# Altium schematic symbol library Modules.SchLib: 5 symbols
Pins are listed as number, name and electrical type; pins without a type are passive.

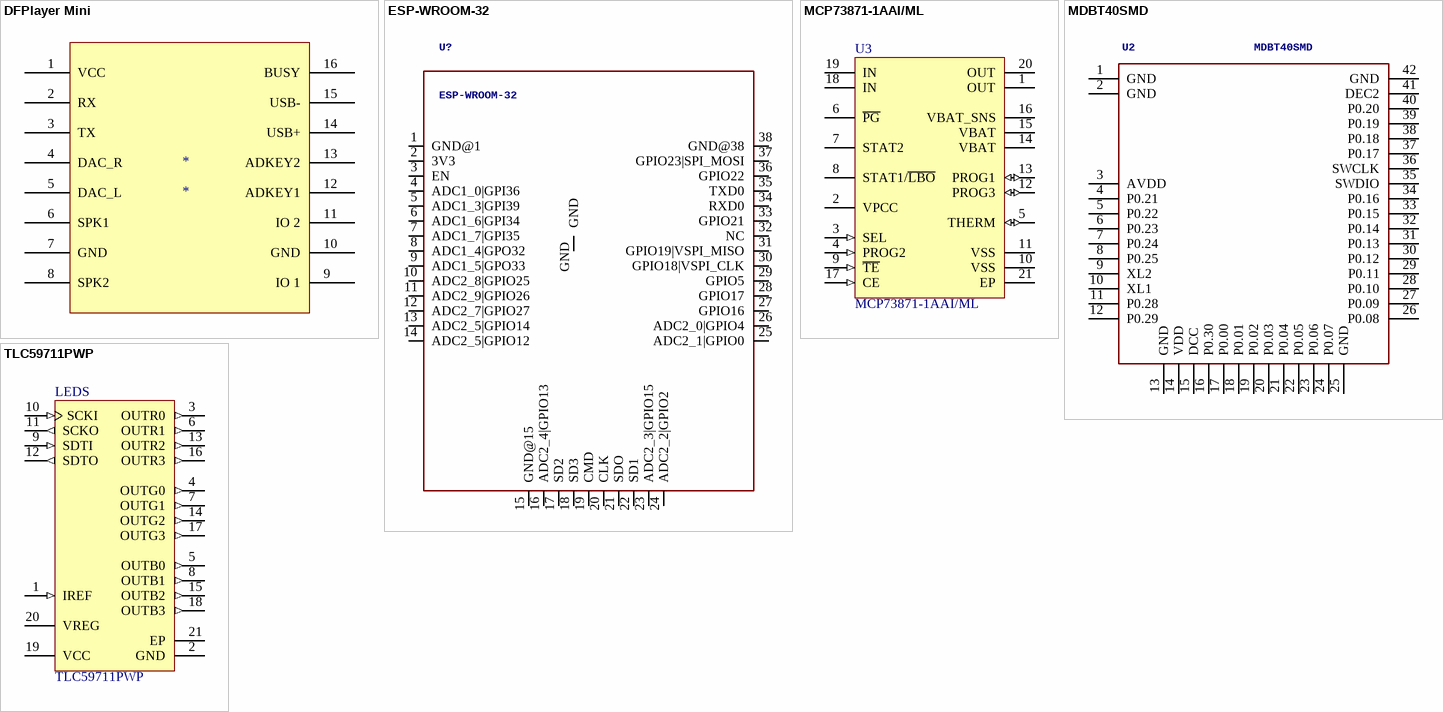
[diagram p0: symbols DFPlayer Mini to TLC59711PWP]

## DFPlayer Mini
designator *
footprint DFPlayer Mini
pins: 1 VCC, 2 RX, 3 TX, 4 DAC_R, 5 DAC_L, 6 SPK1, 7 GND, 8 SPK2, 9 IO 1, 10 GND, 11 IO 2, 12 ADKEY1, 13 ADKEY2, 14 USB+, 15 USB-, 16 BUSY

## ESP-WROOM-32
designator U?
WIFI/BLE module; GateName_1: G$1; SymbolName_1: ESP-WROOM-32; LibraryName: esp32; DeviceSetName: ESP-WROOM-32
footprint ESP-WROOM-32
pins: 1 GND@1, 2 3V3, 3 EN, 4 ADC1_0|GPI36, 5 ADC1_3|GPI39, 6 ADC1_6|GPI34, 7 ADC1_7|GPI35, 8 ADC1_4|GPO32, 9 ADC1_5|GPO33, 10 ADC2_8|GPIO25, 11 ADC2_9|GPIO26, 12 ADC2_7|GPIO27, 13 ADC2_5|GPIO14, 14 ADC2_5|GPIO12, 15 GND@15, 16 ADC2_4|GPIO13, 17 SD2, 18 SD3, 19 CMD, 20 CLK, 21 SDO, 22 SD1, 23 ADC2_3|GPIO15, 24 ADC2_2|GPIO2, 25 ADC2_1|GPIO0, 26 ADC2_0|GPIO4, 27 GPIO16, 28 GPIO17, 29 GPIO5, 30 GPIO18|VSPI_CLK, 31 GPIO19|VSPI_MISO, 32 NC, 33 GPIO21, 34 RXD0, 35 TXD0, 36 GPIO22, 37 GPIO23|SPI_MOSI, 38 GND@38, GND

## MCP73871-1AAI/ML
designator U3
Stand-Alone System Load Sharing and Li-Ion/Li-Polymer Battery Charge Management Controller, 4.1V, 20-Pin QFN, Industrial Temperature; PackageDescription: 20-Lead Plastic Quad Flat, No Lead Package (ML) - 4x4x0.9 mm Body [QFN]; PackageVersion: revBB, Aug-2009; DatasheetVersion: revB, May-2009; PackageReference: QFN-ML20
footprint MCP73871-1AAI/ML
footprint QFN-ML20_L (QFN, 20-Leads, Body 4x4mm, Pitch 0.5mm, Thermal Pad 2.8x2.8mm, IPC High Density)
footprint QFN-ML20_M (QFN, 20-Leads, Body 4x4mm, Pitch 0.5mm, Thermal Pad 2.8x2.8mm, IPC Low Density)
pins: 1 OUT (power), 2 VPCC (power), 3 SEL (in), 4 PROG2 (in), 5 THERM (io), 6 ~{PG} (oc), 7 STAT2 (oc), 8 STAT1/~{LBO} (oc), 9 ~{TE} (in), 10 VSS (power), 11 VSS (power), 12 PROG3 (io), 13 PROG1 (io), 14 VBAT (power), 15 VBAT (power), 16 VBAT_SNS (power), 17 CE (in), 18 IN (power), 19 IN (power), 20 OUT (power), 21 EP (power)

## MDBT40SMD
designator U2
nRF51 BLE module; GateName_1: G$1; SymbolName_1: MDBT40; DeviceName: SMD; LibraryName: linkx; DeviceSetName: MDBT40
footprint MDBT40
pins: 1 GND, 2 GND, 3 AVDD, 4 P0.21, 5 P0.22, 6 P0.23, 7 P0.24, 8 P0.25, 9 XL2, 10 XL1, 11 P0.28, 12 P0.29, 13 GND, 14 VDD, 15 DCC, 16 P0.30, 17 P0.00, 18 P0.01, 19 P0.02, 20 P0.03, 21 P0.04, 22 P0.05, 23 P0.06, 24 P0.07, 25 GND, 26 P0.08, 27 P0.09, 28 P0.10, 29 P0.11, 30 P0.12, 31 P0.13, 32 P0.14, 33 P0.15, 34 P0.16, 35 SWDIO, 36 SWCLK, 37 P0.17, 38 P0.18, 39 P0.19, 40 P0.20, 41 DEC2, 42 GND

## TLC59711PWP
designator LEDS
12-Channel, 16-Bit, ES-PWM RGB LED Driver with 3.3 V Linear Regulator and Watchdog Timer, 4 to 17 V, -40 to 85 degC, 20-pin SOP (PWP20), Green (RoHS & no Sb/Br); Manufacturer: Texas Instruments; Dimming: TRUE; Vin(Min)(V): 4; Vin(Max)(V): 17; Iout(Max)(A): 0.075; Rating: Catalog; PackageReference: PWP20-2965X2290TP; DatasheetVersion: SBVS181A; Mounting Technology: Surface Mount; PartNumber: TLC59711PWP; ComponentLink2Description: Datasheet; ComponentLink3Description: Package Specification; SubFamily: LED Driver; Code_JEDEC: MO-153; PackageVersion: 4073225-4/I; PackageDescription: 20-Lead, Plastic Small Outline, Body Size 4.4 x 6.5 mm, Pitch 0.65 mm; ComponentLink2URL: http://www.ti.com/general/docs/lit/getliterature.tsp?genericPartNumber=TLC59711&fileType=pdf; ComponentLink1URL: http://www.ti.com/; ComponentLink3URL: http://www.ti.com/litv/pdf/mhts001g; Eco-Plan: Green (RoHS & no Sb/Br); ComponentLink1Description: Manufacturer URL
footprint TI-PWP20-2965X2290TP_L (SOP, 20-Leads, Body 6.5x4.4mm, Pitch 0.65mm, Thermal Pad 2.965x2.29mm, IPC High Density)
footprint TI-PWP20-2965X2290TP_M (SOP, 20-Leads, Body 6.5x4.4mm, Pitch 0.65mm, Thermal Pad 2.965x2.29mm, IPC Low Density)
footprint TLC59711PWP (12-channel LED driver)
pins: 1 IREF (in) "Maximum current programming terminal. A resistor connected between IREF and GND sets the maximum current for every constant-current output. When this terminal is directly connected to GND, all outputs are forced off. The (See Datasheet)", 2 GND (power) "Power ground terminal", 3 OUTR0 (out) "RED constant-current outputs. Multiple outputs can be configured in parallel to increase the constant-current capability. Different voltages can be applied to each output.", 4 OUTG0 (out) "GREEN constant-current outputs. Multiple outputs can be configured in parallel to increase the constant-current capability. Different voltages can be applied to each output.", 5 OUTB0 (out) "BLUE constant-current outputs. Multiple outputs can be configured in parallel to increase the constant-current capability. Different voltages can be applied to each output.", 6 OUTR1 (out) "RED constant-current outputs. Multiple outputs can be configured in parallel to increase the constant-current capability. Different voltages can be applied to each output.", 7 OUTG1 (out) "GREEN constant-current outputs. Multiple outputs can be configured in parallel to increase the constant-current capability. Different voltages can be applied to each output.", 8 OUTB1 (out) "BLUE constant-current outputs. Multiple outputs can be configured in parallel to increase the constant-current capability. Different voltages can be applied to each output.", 9 SDTI (in) "Serial data input for the 224-bit shift register", 10 SCKI (in) "Serial data shift clock input. Data present on SDTI are shifted to the LSB of the 224-bit shift register with the SCKI rising edge Data in the shift register are shifted toward the MSB at each SCKI rising edge. The MSB data (See Datasheet)", 11 SCKO (out) "Serial data shift clock output. The input shift clock signal from SCKI is adjusted to the timing of the serial data output for SDTO and the signal is then output at SCKO.", 12 SDTO (out) "Serial data output of the 224-bit shift register. SDTO is connected to the MSB of the 224-bit shift register. Data are clocked out at the falling edge SCKO.", 13 OUTR2 (out) "RED constant-current outputs. Multiple outputs can be configured in parallel to increase the constant-current capability. Different voltages can be applied to each output.", 14 OUTG2 (out) "GREEN constant-current outputs. Multiple outputs can be configured in parallel to increase the constant-current capability. Different voltages can be applied to each output.", 15 OUTB2 (out) "BLUE constant-current outputs. Multiple outputs can be configured in parallel to increase the constant-current capability. Different voltages can be applied to each output.", 16 OUTR3 (out) "RED constant-current outputs. Multiple outputs can be configured in parallel to increase the constant-current capability. Different voltages can be applied to each output.", 17 OUTG3 (out) "GREEN constant-current outputs. Multiple outputs can be configured in parallel to increase the constant-current capability. Different voltages can be applied to each output.", 18 OUTB3 (out) "BLUE constant-current outputs. Multiple outputs can be configured in parallel to increase the constant-current capability. Different voltages can be applied to each output.", 19 VCC (power) "Power-supply terminal", 20 VREG (power) "Internal linear voltage regulator output. A decoupling capacitor of 1 uF must be connected. This output can be used for external devices as a 3.3- V power supply. This terminal can be connected with the VREG terminal of (See Datasheet)", 21 EP (power) "Exposed Pad"